# Altium schematic symbol library 13POS.SchLib: 1 symbol
Pins are listed as number, name and electrical type; pins without a type are passive.

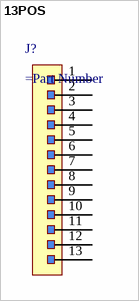
[diagram p0: symbol 13POS]

## 13POS
designator J?
=Description
pins: 1, 2, 3, 4, 5, 6, 7, 8, 9, 10, 11, 12, 13